# EAGLE library part TL751L12CDR (library thecustomgeek)
Part TL751L12CDR from TI. SMD 12V 150mA LDO. SOIC-8
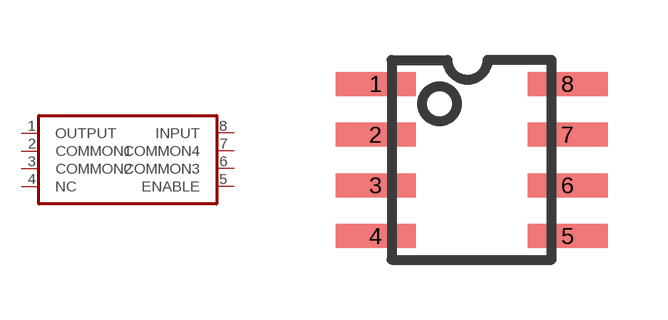
[diagram p6: symbol with the pads of TL751L12CDR; footprint TL751L12CDR]

Designator prefix -

## TL751L12CDR  [TL751L12CDR]
1  OUTPUT
2  COMMON1
3  COMMON2
4  NC
5  ENABLE
6  COMMON3
7  COMMON4
8  INPUT

## Footprint TL751L12CDR (pad centres in mm)
smd 2 x 0.6: 1 -2.4,1.8; 2 -2.4,0.53; 3 -2.4,-0.74; 4 -2.4,-2.01; 5 2.4,-2.01; 6 2.4,-0.74; 7 2.4,0.53; 8 2.4,1.8